# EAGLE library part SELECTOR_SWITCH_TYPE_07R (library LW_DUB)
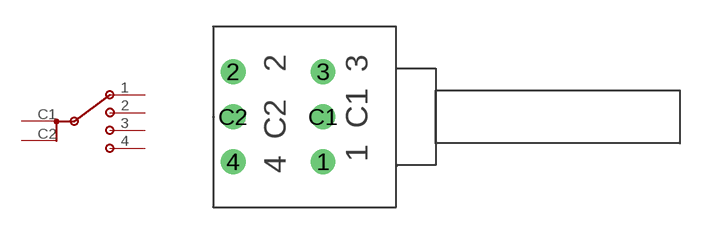
[diagram p10: symbol with the pads of SELECTOR_SWITCH_TYPE_07R; footprint SELECTOR_SWITCH_TYPE_07R]

Designator prefix -

## SELECTOR_SWITCH_TYPE_07R  [SELECTOR_SWITCH_TYPE_07R]
1  1
2  2
3  3
4  4
C1  C1
C2  C2

## Footprint SELECTOR_SWITCH_TYPE_07R (pad centres in mm)
drill 0.9: 1 2.54,-2.54; 2 -2.54,2.54; 3 2.54,2.54; 4 -2.54,-2.54; C1 2.54,0; C2 -2.54,0